# Altium schematic symbol library 694108106102.SchLib: 1 symbol
Pins are listed as number, name and electrical type; pins without a type are passive.

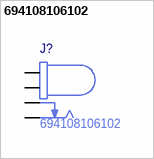
[diagram p0: symbol 694108106102]

## 694108106102
designator J?  Manufacturer Part Number: 694108106102  (hidden comment: *)
pins: 1, 2, 3, 4